# Altium schematic symbol library IC.SchLib: 1 symbol
Pins are listed as number, name and electrical type; pins without a type are passive.

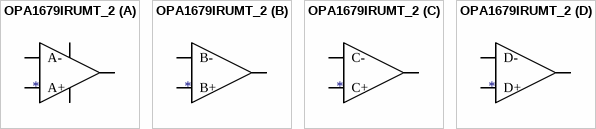
[diagram p0: symbol OPA1679IRUMT_2]

## OPA1679IRUMT_2
designator U?
footprint QFN65P400X400X80-17N-D_1
part A pins: 1 A-, 2 A+, 3 V+, 10 V-, 15 A
part B pins: 4 B+, 5 B-, 6 B
part C pins: 7 C, 8 C-, 9 C+
part D pins: 11 D+, 12 D-, 14 D